# Altium schematic symbol library VL6180X.SchLib: 1 symbol
Pins are listed as number, name and electrical type; pins without a type are passive.

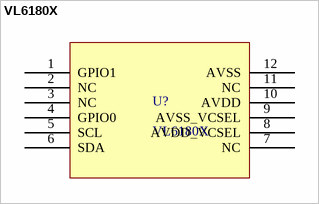
[diagram p0: symbol VL6180X]

## VL6180X
designator U?
footprint VL6180X
pins: 1 GPIO1, 2 NC, 3 NC, 4 GPIO0, 5 SCL, 6 SDA, 7 NC, 8 AVDD_VCSEL (power), 9 AVSS_VCSEL (power), 10 AVDD (power), 11 NC, 12 AVSS (power)